# EAGLE library part MAX187 (library max187)
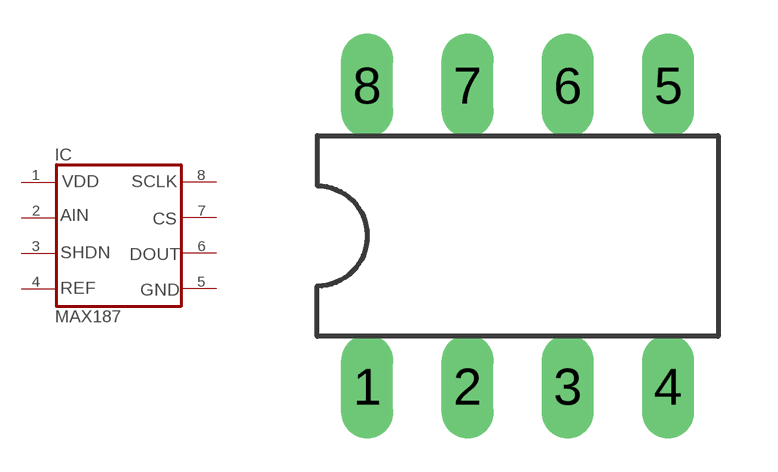
[diagram p0: symbol with the pads of DIL8; footprint DIL8]

Designator prefix IC

## MAX187  [DIL8]
1  VDD  pwr
2  AIN  in
3  SHDN  in
4  REF  out
5  GND  pwr
6  DOUT  out
7  CS  in
8  SCLK  in

## Footprint DIL8 (pad centres in mm)
drill 0.813 long: 1 -8.89,-2.54; 2 -6.35,-2.54; 3 -3.81,-2.54; 4 -1.27,-2.54; 5 -1.27,5.08; 6 -3.81,5.08; 7 -6.35,5.08; 8 -8.89,5.08